# EAGLE library part ICL3223 (library 0_jc-custom-eagle6)
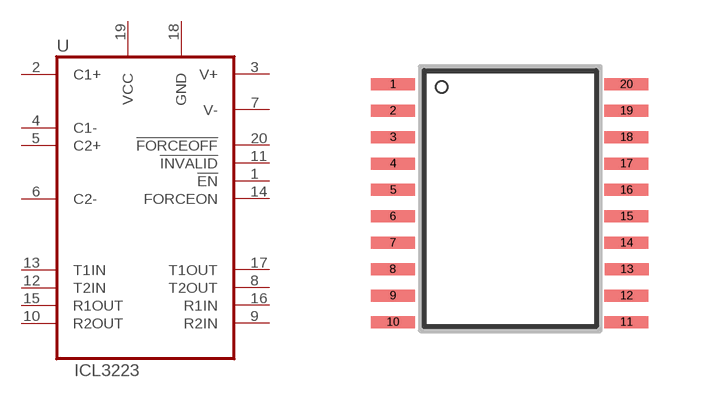
[diagram p21: symbol with the pads of TSSOP20-JC; footprint TSSOP20-JC]

Designator prefix -

## ICL3223JC  [TSSOP20-JC]
1  !EN
2  C1+
3  V+
4  C1-
5  C2+  in
6  C2-  in
7  V-  out
8  T2OUT  out
9  R2IN
10  R2OUT
11  !INVALID
12  T2IN
13  T1IN
14  FORCEON
15  R1OUT
16  R1IN
17  T1OUT
18  GND
19  VCC
20  !FORCEOFF

## Footprint TSSOP20-JC (pad centres in mm)
smd 1.1 x 0.3: 1 -2.937,2.693; 2 -2.937,2.032; 3 -2.937,1.372; 4 -2.937,0.712; 5 -2.937,0.051; 6 -2.937,-0.609; 7 -2.937,-1.27; 8 -2.943,-1.93; 9 -2.937,-2.59; 10 -2.937,-3.251; 11 2.905,-3.251; 12 2.905,-2.59; 13 2.911,-1.93; 14 2.905,-1.27; 15 2.905,-0.609; 16 2.905,0.051; 17 2.905,0.712; 18 2.905,1.372; 19 2.905,2.032; 20 2.905,2.693